# EAGLE library part LED_RGB (library MF_LEDs)
Library: MF_LEDs Description: Device for RGB LED Packages. Manufacture part number (MFG#) can be added via Attributes.
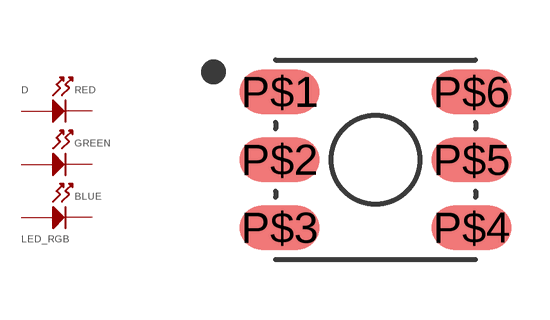
[diagram p0: symbol with the pads of LED5060RGB; footprint LED5060RGB]

Designator prefix D

## LED_RGB_5060 (MFG#: N/A)  [LED5060RGB]
P$1  ANODE_GREEN  pwr
P$2  ANODE_RED  pwr
P$3  ANODE_BLUE  pwr
P$4  CATHODE_BLUE  pwr
P$5  CATHODE_RED  pwr
P$6  CATHODE_GREEN  pwr

## Footprint LED5060RGB (pad centres in mm)
Description: Footprint for LEDs in 5060 Standard.
smd 2 x 1.1: P$1 -2.4,1.7; P$2 -2.4,0; P$3 -2.4,-1.7; P$4 2.4,-1.7; P$5 2.4,0; P$6 2.4,1.7